# EAGLE library part SLIDE_SWITCH (library Let'sMakeMyFabduino)
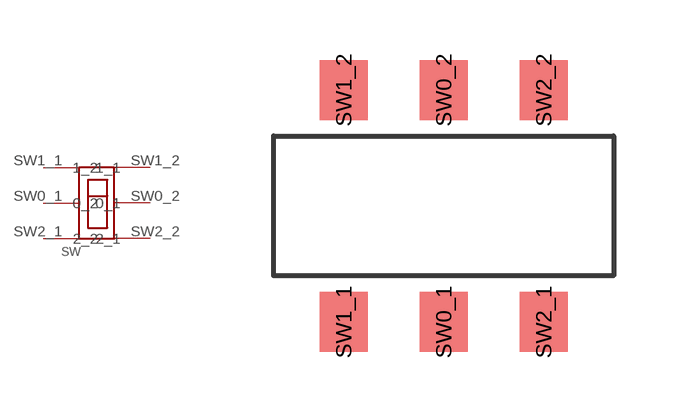
[diagram p7: symbol with the pads of SLIDE_SWITCH_ALPS; footprint SLIDE_SWITCH_ALPS]

Designator prefix SW

## SLIDE_SWITCH  [SLIDE_SWITCH_ALPS]
SW0_1  0_1
SW0_2  0_2
SW1_1  1_1
SW1_2  1_2
SW2_1  2_1
SW2_2  2_2

## Footprint SLIDE_SWITCH_ALPS (pad centres in mm)
smd 1.2 x 1.5: SW0_1 0,-2.9; SW0_2 0,2.9; SW1_1 -2.5,-2.9; SW1_2 -2.5,2.9; SW2_1 2.5,-2.9; SW2_2 2.5,2.9